# EAGLE library part 687130183722 (library Eagle_FPC_CONNECTOR_AND_FFC_CAB (rev18c))
687130183722 WR-FPC 0.50mm SMT Horizontal Bottom Contact - Low Profile <http://katalog.we-online.de/media/images/v2/Family_WR-FPC_6871xx183722.jpg> Details see: http://katalog.we-online.de/en/em/FPC_0_5_SMT_ZIF_HORIZONTAL_BOTTOM_CONTACT_LOW_PROFILE_6871xx183722 Created by Yingchun,shan 2016 (C) Wurth Elektronik
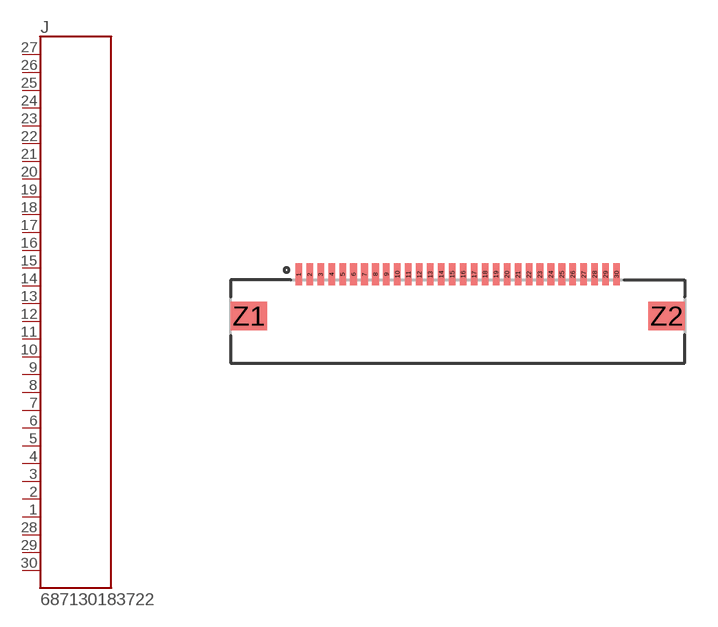
[diagram p207: symbol with the pads of 687130183722; footprint 687130183722]

Designator prefix J

## 687130183722  [687130183722]
1  27  pas
2  26  pas
3  25  pas
4  24  pas
5  23  pas
6  22  pas
7  21  pas
8  20  pas
9  19  pas
10  18  pas
11  17  pas
12  16  pas
13  15  pas
14  14  pas
15  13  pas
16  12  pas
17  11  pas
18  10  pas
19  9  pas
20  8  pas
21  7  pas
22  6  pas
23  5  pas
24  4  pas
25  3  pas
26  2  pas
27  1  pas
28  28  pas
29  29  pas
30  30  pas

## Footprint 687130183722 (pad centres in mm)
smd 0.3 x 1: 1 -7.25,1.9; 2 -6.75,1.9; 3 -6.25,1.9; 4 -5.75,1.9; 5 -5.25,1.9; 6 -4.75,1.9; 7 -4.25,1.9; 8 -3.75,1.9; 9 -3.25,1.9; 10 -2.75,1.9; 11 -2.25,1.9; 12 -1.75,1.9; 13 -1.25,1.9; 14 -0.75,1.9; 15 -0.25,1.9; 16 0.25,1.9; 17 0.75,1.9; 18 1.25,1.9; 19 1.75,1.9; 20 2.25,1.9; 21 2.75,1.9; 22 3.25,1.9; 23 3.75,1.9; 24 4.25,1.9; 25 4.75,1.9; 26 5.25,1.9; 27 5.75,1.9; 28 6.25,1.9; 29 6.75,1.9; 30 7.25,1.9
smd 1.65 x 1.3: Z1 -9.525,0; Z2 9.525,0